# EAGLE library part NC7SZ157P6X (library NC7SZ157P6X)
TinyLogic Ultra-High-Speed Non-Inverting Multiplexer Fairchild Semiconductor http://www.fairchildsemi.com/ds/NC/NC7SZ157.pdf
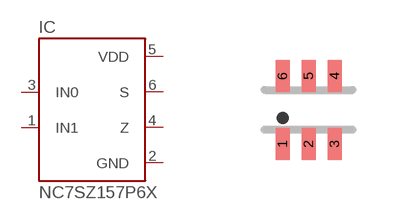
[diagram p0: symbol with the pads of SC70-6L; footprint SC70-6L]

Designator prefix IC

## NC7SZ157P6X (Availability: Good; Description: NC7SZ157 Series 5.5 V Tinny Logic UHS 2-Input Non-Inverting Multiplexer -SC-70-6; MF: ON Semiconductor; MP: NC7SZ157P6X; Package: SC-70-6 ON Semiconductor; Price: 0.15 USD)  [SC70-6L]
1  IN1  in
2  GND  pwr
3  IN0  in
4  Z  out
5  VDD  pwr
6  S  in

## Footprint SC70-6L (pad centres in mm)
SC-70 Package
smd 0.35 x 0.8: 1 -0.65,-0.85; 2 0,-0.85; 3 0.65,-0.85; 4 0.65,0.85; 5 0,0.85; 6 -0.65,0.85